# Altium footprint library C_20_addition.PcbLib: 5 footprints
Each footprint in its own frame and in the unit in brackets; x right, y up, seen from the top. Pads: shape width x height; smd on the part's side, far side on the other; paste and mask are expansions set on the pad; w line width, h text height; cw(c..) or ccw(c..) is an arc to the next point about the centre after c.
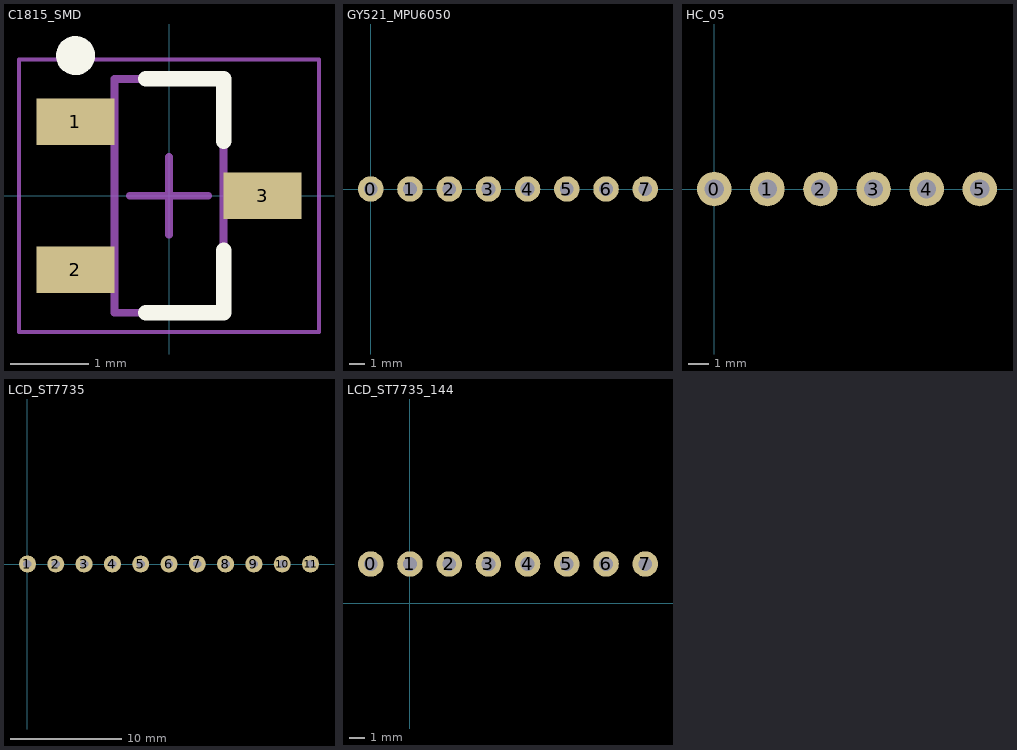
[diagram p0: the footprints below, top view; thin cyan lines are the x and y axes]

## C1815_SMD [mm] "SOT23, 3-Leads, Body 2.90x2.45mm, Pitch 0.95mm, IPC Medium Density"
height 1.1
pads (3):
  rect 1x0.6 smd: 1(-1.2,0.95) 2(-1.2,-0.95) 3(1.2,0)
Top Overlay:
  circle w0.25: c-1.2,1.8 r0.125
  lines w0.2: -0.3,-1.5 0.7,-1.5 0.7,-0.7 ; -0.3,1.5 0.7,1.5 0.7,0.7
Mechanical 13:
  lines w0.1: -0.7,-1.5 0.7,-1.5 0.7,1.5 -0.7,1.5 -0.7,-1.5
Mechanical 15:
  lines w0.05: -1.925,-1.75 1.925,-1.75 1.925,1.75 -1.925,1.75 -1.925,-1.75
  lines w0.1: -0.5,0 0.5,0 ; 0,-0.5 0,0.5
3D body: height 1.1, standoff 0.05, extent -0.7,-1.5 0.7,1.5

## GY521_MPU6050 [mil]
pads (8):
  round 65 hole 35: 0(0,0) 1(100,0) 2(200,0) 3(300,0) 4(400,0) 5(500,0) 6(600,0) 7(700,0)
3D body "ITG-MPU.STEP": height 334.22, standoff -128.38, extent -70,-59.8 776.46,589.8

## HC_05 [mil]
pads (6):
  round 65 hole 36: 0(0,0) 1(100,0) 2(200,0) 3(300,0) 4(400,0) 5(500,0)
3D body "hc05.STEP": height 1600, standoff -77.17, extent -66.93,-15.28 566.93,217

## LCD_ST7735 [mil]
pads (11):
  round 60 hole 30: 1(0,0) 2(100,0) 3(200,0) 4(300,0) 5(400,0) 6(500,0) 7(600,0) 8(700,0) 9(800,0) 10(900,0) 11(1000,0)
3D body "1.3 TFT IPS - Module.stp": height 370.29, standoff 210.63, extent -46,-1471 1054,79
3D body "zl201-7_p2-54_l17-8_w2-54_h8-89.stp": height 370, standoff -100, extent 154.01,-1460.99 854.01,-1360.99

## LCD_ST7735_144 [mil]
pads (8):
  round 65 hole 35: 0(-100,100) 1(0,100) 2(100,100) 3(200,100) 4(300,100) 5(400,100) 6(500,100) 7(600,100)
3D body: height 10, standoff 0, extent 0,300 0,300
3D body "SmallScreenWithHeaders.STEP": height 52, standoff -450, extent -424.25,-5 924.25,2205